# EAGLE library part PIC24F16 (library ElcPartsLibrary)
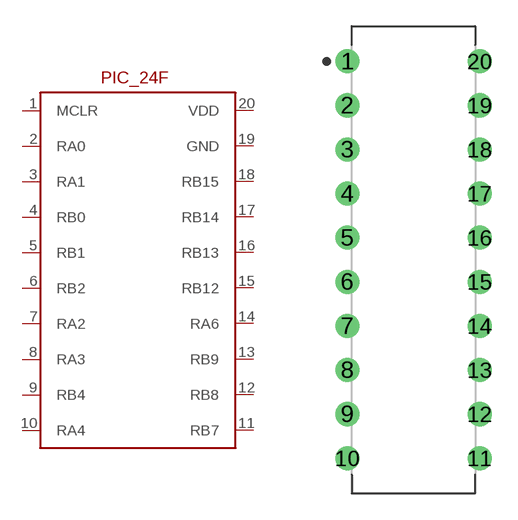
[diagram p1: symbol with the pads of DIP762W53P254L2590H533Q20B; footprint DIP762W53P254L2590H533Q20B]

Designator prefix -

## PIC24F16DIP20  [DIP762W53P254L2590H533Q20B]
1  MCLR
2  RA0
3  RA1
4  RB0
5  RB1
6  RB2
7  RA2
8  RA3
9  RB4
10  RA4
11  RB7
12  RB8
13  RB9
14  RA6
15  RB12
16  RB13
17  RB14
18  RB15
19  GND
20  VDD

## Footprint DIP762W53P254L2590H533Q20B (pad centres in mm)
20-DIP, 2.54 mm (0.10 in) pitch, 7.62 mm (0.30 in) span, 25.91 X 6.60 X 5.33 mm body 20-pin DIP package with 2.54 mm (0.10 in) pitch, 7.62 mm (0.30 in) span with body size 25.91 X 6.60 X 5.33 mm
drill 0.788 pad 1.388: 1 -3.81,11.43; 2 -3.81,8.89; 3 -3.81,6.35; 4 -3.81,3.81; 5 -3.81,1.27; 6 -3.81,-1.27; 7 -3.81,-3.81; 8 -3.81,-6.35; 9 -3.81,-8.89; 10 -3.81,-11.43; 11 3.81,-11.43; 12 3.81,-8.89; 13 3.81,-6.35; 14 3.81,-3.81; 15 3.81,-1.27; 16 3.81,1.27; 17 3.81,3.81; 18 3.81,6.35; 19 3.81,8.89; 20 3.81,11.43